# Altium footprint library FH26W-45S-0.3SHW(60).PcbLib: 1 footprints
Each footprint in its own frame and in the unit in brackets; x right, y up, seen from the top. Pads: shape width x height; smd on the part's side, far side on the other; paste and mask are expansions set on the pad; w line width, h text height; cw(c..) or ccw(c..) is an arc to the next point about the centre after c.
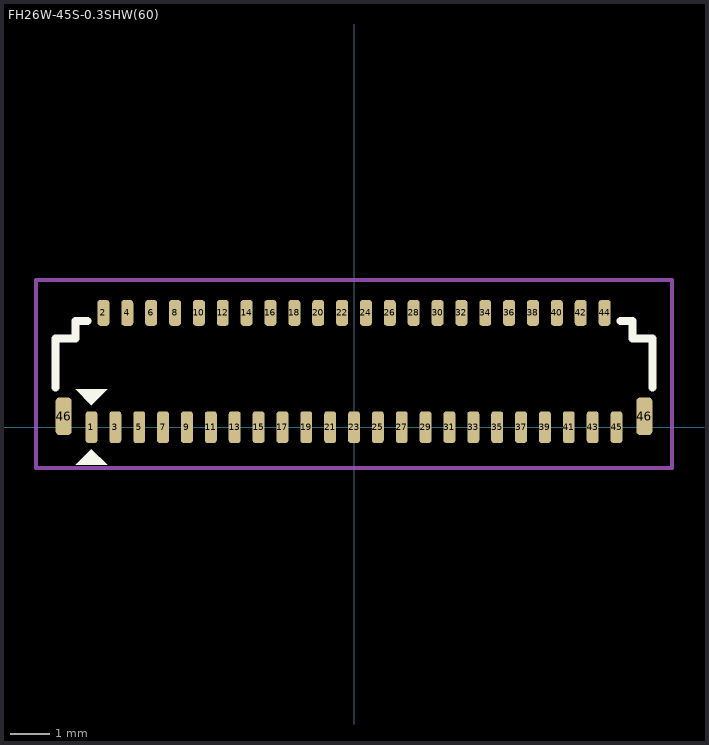
[diagram p0: the footprint, top view; thin cyan lines are the x and y axes]

## FH26W-45S-0.3SHW(60) [mm]
pads (47):
  rrect50% 0.3x0.8 smd: 1(-6.6,0) 3(-6,0) 5(-5.4,0) 7(-4.8,0) 9(-4.2,0) 11(-3.6,0) 13(-3,0) 15(-2.4,0) 17(-1.8,0) 19(-1.2,0) 21(-0.6,0) 23(0,0) 25(0.6,0) 27(1.2,0) 29(1.8,0) 31(2.4,0) 33(3,0) 35(3.6,0) 37(4.2,0) 39(4.8,0) 41(5.4,0) 43(6,0) 45(6.6,0)
  rrect50% 0.3x0.65 smd: 2(-6.3,2.875) 4(-5.7,2.875) 6(-5.1,2.875) 8(-4.5,2.875) 10(-3.9,2.875) 12(-3.3,2.875) 14(-2.7,2.875) 16(-2.1,2.875) 18(-1.5,2.875) 20(-0.9,2.875) 22(-0.3,2.875) 24(0.3,2.875) 26(0.9,2.875) 28(1.5,2.875) 30(2.1,2.875) 32(2.7,2.875) 34(3.3,2.875) 36(3.9,2.875) 38(4.5,2.875) 40(5.1,2.875) 42(5.7,2.875) 44(6.3,2.875)
  rrect50% 0.4x0.95 smd: 46(-7.3,0.275) 46(7.3,0.275)
Top Overlay:
  region: -7,0.95 -6.2,0.95 -6.6,0.55
  region: -6.2,-0.95 -7,-0.95 -6.6,-0.55
  lines w0.2: -7.5,1 -7.5,2.225 -7,2.225 -7,2.675 -6.7,2.675 ; 6.7,2.675 7,2.675 7,2.225 7.5,2.225 7.5,1
Top Courtyard:
  lines w0.1: -8,-1.025 -8,3.7 8,3.7 8,-1.025 -7.5,-1.025 -8,-1.025
3D body "WFH-2000120.STEP": height 1, standoff 0, extent -7.5,-0.525 7.5,2.975